# EAGLE library part 10051922-1210ELF (library FPC FFC Connectors)
CONN FPC BOTTOM 12POS 0.50MM R/A Manufacturer's datasheet <https://www.amphenol-icc.com/media/wysiwyg/files/drawing/10051922.pdf>
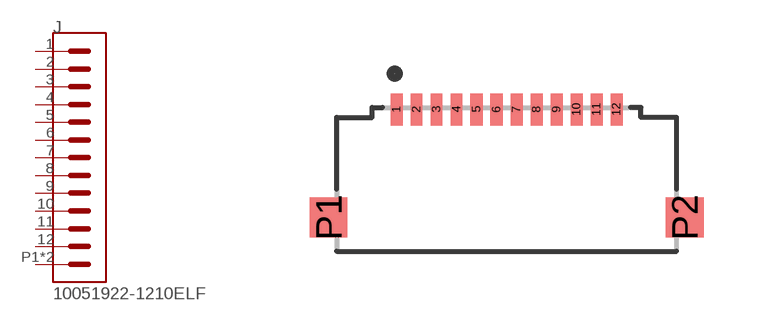
[diagram p5: symbol with the pads of 10051922-1210ELF; footprint 10051922-1210ELF]

Designator prefix J

## 10051922-1210ELF (CREATED_BY: PCBLayout.com; DIGIKEY_PART_NUMBER: 609-1236-2-ND; MANUFACTURER: Amphenol ICC (FCI); MPN: 10051922-1210ELF)  [10051922-1210ELF]
1  1  pas
2  2  pas
3  3  pas
4  4  pas
5  5  pas
6  6  pas
7  7  pas
8  8  pas
9  9  pas
10  10  pas
11  11  pas
12  12  pas
P1  SHIELD  pwr
P2  SHIELD  pwr

## Footprint 10051922-1210ELF (pad centres in mm)
smd 0.3 x 0.8: 1 -2.75,0; 2 -2.25,0; 3 -1.75,0; 4 -1.25,0; 5 -0.75,0; 6 -0.25,0; 7 0.25,0; 8 0.75,0; 9 1.25,0; 10 1.75,0; 11 2.25,0; 12 2.75,0
smd 0.95 x 1: P1 -4.45,-2.7; P2 4.45,-2.7